# EAGLE library part XFMR_A431S (library wheat)
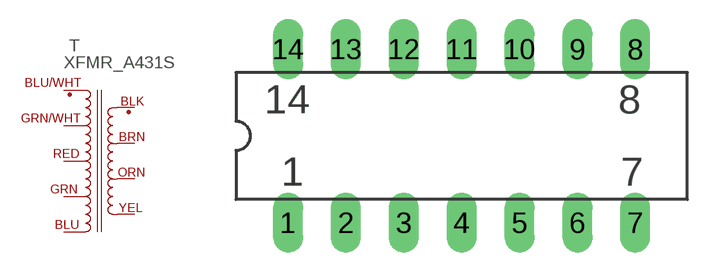
[diagram p154: symbol with the pads of DIP14; footprint DIP14]

Designator prefix T

## XFMR_A431S  [DIP14]
1  P1  pas
2  P2  pas
3  P3  pas
4  P4  pas
5  P5  pas
6  S1  pas
7  S2  pas
8  S11  pas
9  S12  pas

## Footprint DIP14 (pad centres in mm)
drill 0.813 long: 1 0,0; 2 2.54,0; 3 5.08,0; 4 7.62,0; 5 10.16,0; 6 12.7,0; 7 15.24,0; 8 15.24,7.62; 9 12.7,7.62; 10 10.16,7.62; 11 7.62,7.62; 12 5.08,7.62; 13 2.54,7.62; 14 0,7.62